# EAGLE library part NUP2202W1 (library diode)
Transient Voltage Suppressor
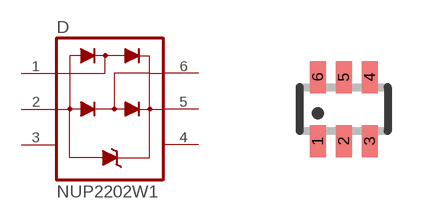
[diagram p14: symbol with the pads of SOT363; footprint SOT363]

Designator prefix D

## NUP2202W1  [SOT363]
1  1  pas
2  2  pas
3  3  pas
4  4  pas
5  5  pas
6  6  pas

## Footprint SOT363 (pad centres in mm)
Small Outline Transistor; 6 leads
smd 0.4 x 0.8: 1 -0.65,-0.8; 2 0,-0.8; 3 0.65,-0.8; 4 0.65,0.8; 5 0,0.8; 6 -0.65,0.8